# Altium footprint library QFN-22_3x4x05P.PcbLib: 1 footprints
Each footprint in its own frame and in the unit in brackets; x right, y up, seen from the top. Pads: shape width x height; smd on the part's side, far side on the other; paste and mask are expansions set on the pad; w line width, h text height; cw(c..) or ccw(c..) is an arc to the next point about the centre after c.
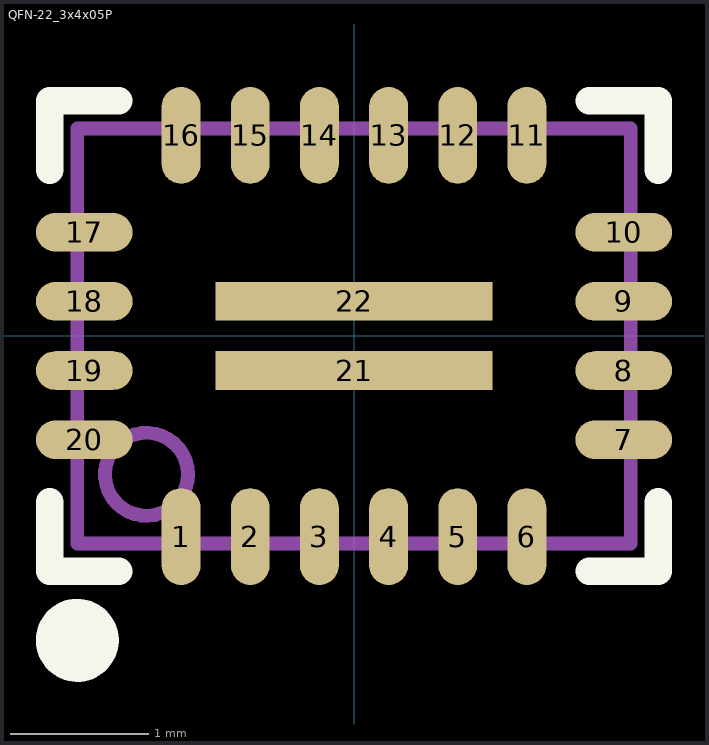
[diagram p0: the footprint, top view; thin cyan lines are the x and y axes]

## QFN-22_3x4x05P [mm]
pads (22):
  oval 0.28x0.7 smd mask+0.051: 1(-1.25,-1.45) 2(-0.75,-1.45) 3(-0.25,-1.45) 4(0.25,-1.45) 5(0.75,-1.45) 6(1.25,-1.45) 11(1.25,1.45) 12(0.75,1.45) 13(0.25,1.45) 14(-0.25,1.45) 15(-0.75,1.45) 16(-1.25,1.45)
  oval 0.7x0.28 smd mask+0.051: 7(1.95,-0.75) 8(1.95,-0.25) 9(1.95,0.25) 10(1.95,0.75) 17(-1.95,0.75) 18(-1.95,0.25) 19(-1.95,-0.25) 20(-1.95,-0.75)
  rect 2x0.28 smd mask+0.051: 21(0,-0.25) 22(0,0.25)
Top Overlay:
  circle w0.3: c-2,-2.2 r0.15
  lines w0.2: -2.2,-1.2 -2.2,-1.7 -1.7,-1.7 ; -2.2,1.2 -2.2,1.7 -1.7,1.7 ; 1.7,-1.7 2.2,-1.7 2.2,-1.2 ; 1.7,1.7 2.2,1.7 2.2,1.2
Mechanical 13:
  circle w0.1: c-1.5,-1 r0.3
  lines w0.1: -2,-1.5 -2,1.5 2,1.5 2,-1.5 -2,-1.5